# Altium schematic symbol library IC_Digital.SchLib: 15 symbols
Pins are listed as number, name and electrical type; pins without a type are passive.

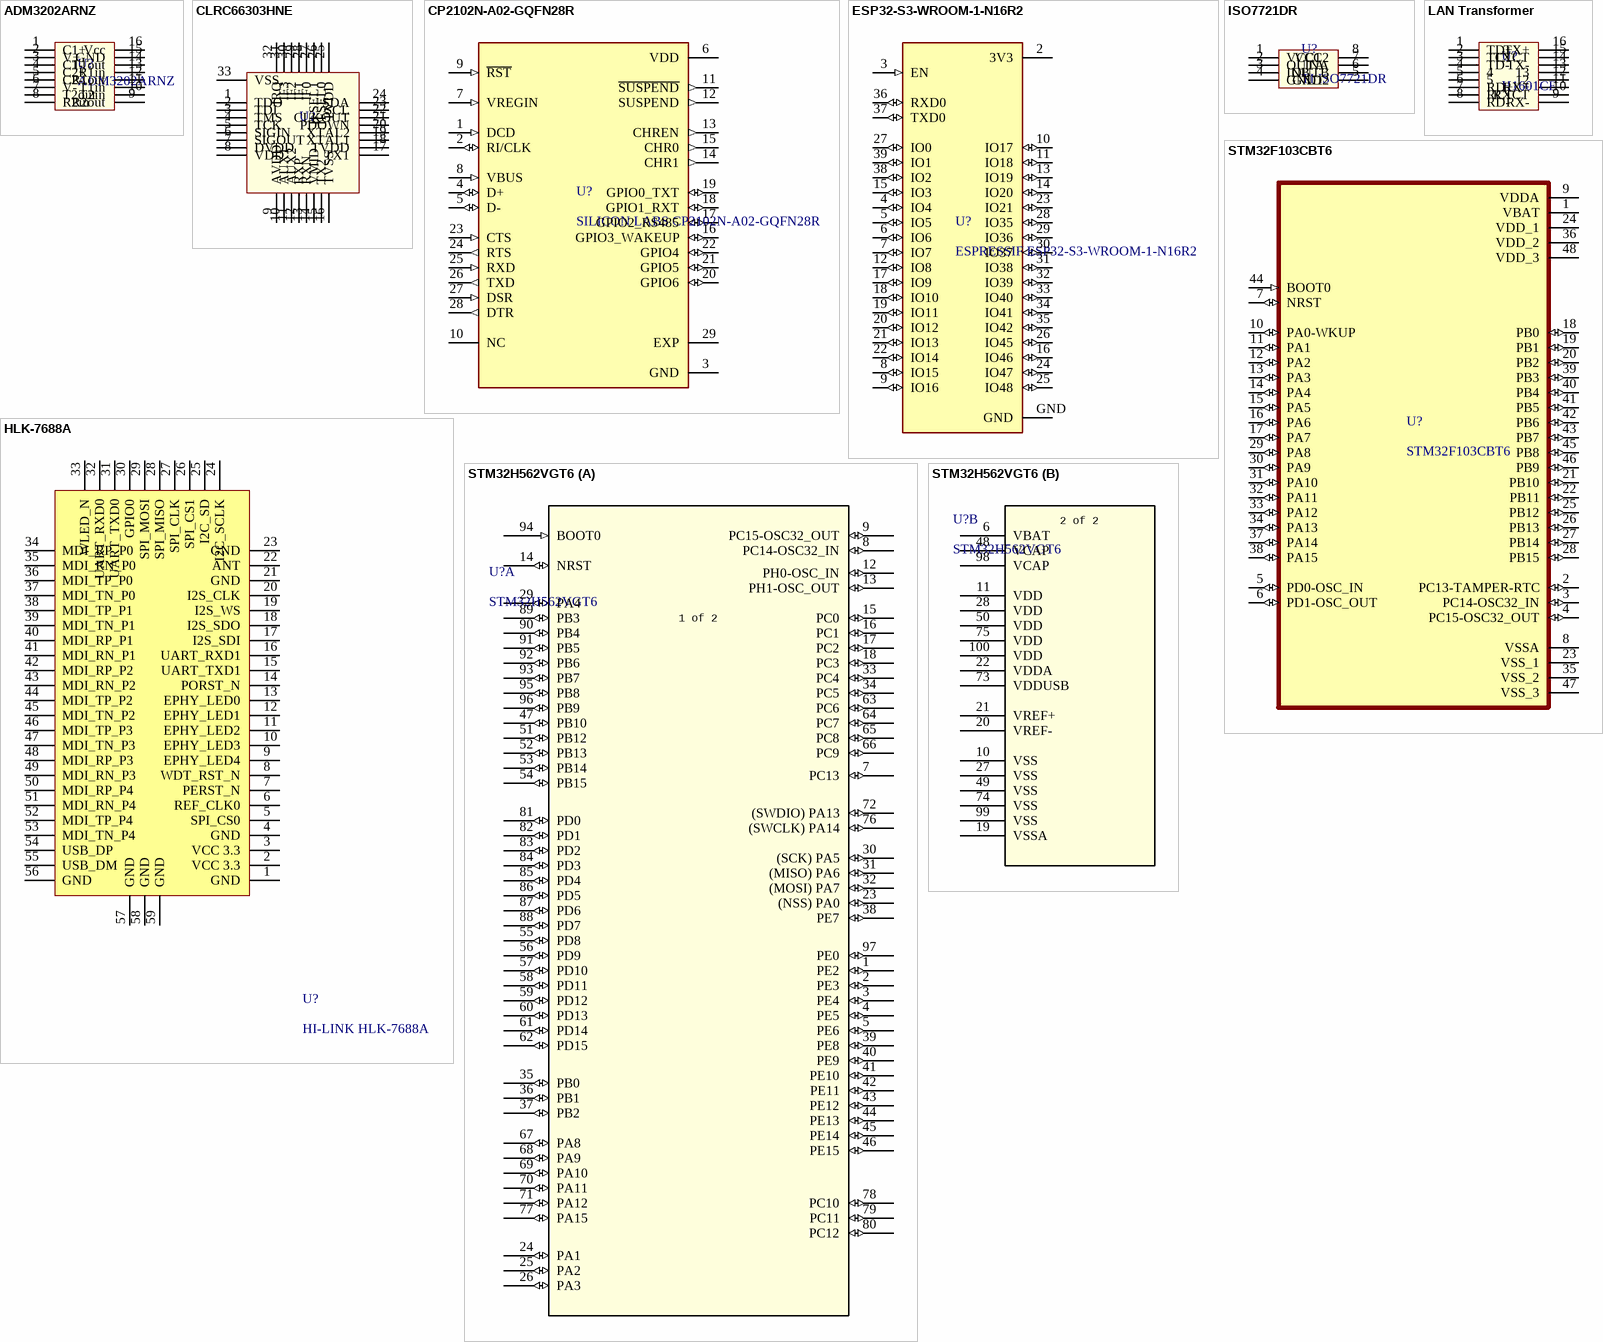
[diagram p0: symbols ADM3202ARNZ to STM32H562VGT6]

## ADM3202ARNZ
designator U?
note: Original; val: ADM3202ARNZ; sample link: https://www.lcsc.com/product-detail/RS232-ICs_Analog-Devices-ADM3202ARNZ-REEL_C496498.html; unit price: $ 1.658
footprint 16SOIC_N (SOIC, 16-Leads, Body 9,90x3,90mm, Pitch 1,27mm, IPC Medium Density)
pins: 1 C1+, 2 V+, 3 C1-, 4 C2+, 5 C2-, 6 V-, 7 T2out, 8 R2in, 9 R2out, 10 T2in, 11 T1in, 12 R1out, 13 R1in, 14 T1out, 15 GND, 16 Vcc

## CLRC66303HNE
designator U?, comment NXP CLRC66303HNE  (value not drawn)
ISO 14443A,ISO 14443B,MIFARE I2C,SPI,UART HVQFN-32-EP(5x5) RFID, RF Access, Monitoring ICs RoHS; sample link: https://www.lcsc.com/product-detail/C468447.html?s_z=n_CLRC663; val: NXP CLRC66303HNE; unit price: $ 3.4146
footprint QFN50P500X500X100_HS-33N (QFN, 32-Leads, Body 5,00x5,00mm, Pitch 0,50mm, Thermal Pad 3,10x3,10mm, IPC Medium Density)
pins: 1 TDO "O", 2 TDI "I", 3 TMS "I", 4 TCK "I", 5 SIGIN "I", 6 SIGOUT "O", 7 DVDD "PWR", 8 VDD "PWR", 9 AVDD "PWR", 10 AUX1 "O", 11 AUX2 "O", 12 RXP "I", 13 RXN "I", 14 VMID "PWR", 15 TX2 "O", 16 TVSS "PWR", 17 TX1 "O", 18 TVDD "PWR", 19 XTAL1 "I", 20 XTAL2 "O", 21 PDOWN "I", 22 CLKOUT "O", 23 SCL "O", 24 SDA "I/O", 25 PVDD "PWR", 26 IFSEL0 "I", 27 IFSEL1 "I", 28 IF0 "I/O", 29 IF1 "I/O", 30 IF2 "I/O", 31 IF3 "I/O", 32 IRQ "O", 33 VSS "PWR"

## CP2102N-A02-GQFN28R
designator U?, comment SILICON LABS CP2102N-A02-GQFN28R
USB to UART USB 2.0 QFN-28-EP(5x5) Interface Controllers RoHS; val: SILICON LABS CP2102N-A02-GQFN28R; note: *; sample link: https://www.lcsc.com/product-detail/C964632.html?s_z=n_CP2102N-A02-GQFN28; unit price: $ 1.6479
footprint IC_CP2102N-A02-GQFN28R
pins: 1 DCD (in), 2 RI/CLK (io), 3 GND (power), 4 D+ (io), 5 D- (io), 6 VDD (power), 7 VREGIN (in), 8 VBUS (in), 9 ~{RST} (in), 10 NC, 11 ~{SUSPEND} (out), 12 SUSPEND (out), 13 CHREN (out), 14 CHR1 (out), 15 CHR0 (out), 16 GPIO3_WAKEUP (io), 17 GPIO2_RS485 (io), 18 GPIO1_RXT (io), 19 GPIO0_TXT (io), 20 GPIO6 (io), 21 GPIO5 (io), 22 GPIO4 (io), 23 CTS (in), 24 RTS (out), 25 RXD (in), 26 TXD (out), 27 DSR (in), 28 DTR (out), 29 EXP (power)

## ESP32-S3-WROOM-1-N16R2
designator U?, comment ESPRESSIF ESP32-S3-WROOM-1-N16R2
2.4GHz ESP32-S3 On-board PCB Antenna -103.5dBm SMD,25.5x18mm RF Transceiver Modules and Modems RoHS; val: ESPRESSIF ESP32-S3-WROOM-1-N16R2; note: *; sample link: https://www.lcsc.com/product-detail/C2913205.html?s_z=n_esp32-s3; unit price: $ 5.2278
footprint XCVR_ESP32-S3-WROOM-1-N16R2
pins: 2 3V3 (power), 3 EN (in), 4 IO4 (io), 5 IO5 (io), 6 IO6 (io), 7 IO7 (io), 8 IO15 (io), 9 IO16 (io), 10 IO17 (io), 11 IO18 (io), 12 IO8 (io), 13 IO19 (io), 14 IO20 (io), 15 IO3 (io), 16 IO46 (io), 17 IO9 (io), 18 IO10 (io), 19 IO11 (io), 20 IO12 (io), 21 IO13 (io), 22 IO14 (io), 23 IO21 (io), 24 IO47 (io), 25 IO48 (io), 26 IO45 (io), 27 IO0 (io), 28 IO35 (io), 29 IO36 (io), 30 IO37 (io), 31 IO38 (io), 32 IO39 (io), 33 IO40 (io), 34 IO41 (io), 35 IO42 (io), 36 RXD0 (io), 37 TXD0 (io), 38 IO2 (io), 39 IO1 (io), GND (power)

## HLK-7688A
designator U?, comment HI-LINK HLK-7688A
MT7688AN Chip -89.5dBm SMD,32.8x18mm RF Transceiver Modules and Modems RoHS; sample link: https://item.taobao.com/item.htm?abbucket=9&id=539321243420&ns=1&spm=a230r.1.14.14.2b842f1aTirrn8; val: HI-LINK HLK-7688A; note: *; unit price: $ 9.37
footprint HLK-7688A
pins: 1 GND, 2 VCC 3.3, 3 VCC 3.3, 4 GND, 5 SPI_CS0, 6 REF_CLK0, 7 PERST_N, 8 WDT_RST_N, 9 EPHY_LED4, 10 EPHY_LED3, 11 EPHY_LED2, 12 EPHY_LED1, 13 EPHY_LED0, 14 PORST_N, 15 UART_TXD1, 16 UART_RXD1, 17 I2S_SDI, 18 I2S_SDO, 19 I2S_WS, 20 I2S_CLK, 21 GND, 22 ANT, 23 GND, 24 I2C_SCLK, 25 I2C_SD, 26 SPI_CS1, 27 SPI_CLK, 28 SPI_MISO, 29 SPI_MOSI, 30 GPIO0, 31 UART_TXD0, 32 UART_RXD0, 33 WLED_N, 34 MDI_RP_P0, 35 MDI_RN_P0, 36 MDI_TP_P0, 37 MDI_TN_P0, 38 MDI_TP_P1, 39 MDI_TN_P1, 40 MDI_RP_P1, 41 MDI_RN_P1, 42 MDI_RP_P2, 43 MDI_RN_P2, 44 MDI_TP_P2, 45 MDI_TN_P2, 46 MDI_TP_P3, 47 MDI_TN_P3, 48 MDI_RP_P3, 49 MDI_RN_P3, 50 MDI_RP_P4, 51 MDI_RN_P4, 52 MDI_TP_P4, 53 MDI_TN_P4, 54 USB_DP, 55 USB_DM, 56 GND, 57 GND, 58 GND, 59 GND

## ISO7721DR
designator U?, comment TI ISO7721DR
100kV/us SOIC-8 Digital Isolators RoHS; val: TI ISO7721DR; note: *; sample link: https://www.lcsc.com/product-detail/C366164.html; unit price: $ 0.5921
footprint 8SOIC_N (SOIC, 8-Leads, Body 4,90x3,90mm, Pitch 1,27mm, IPC Medium Density)
pins: 1 VCC1, 2 OUTA, 3 INB, 4 GND1, 5 GND2, 6 OUTB, 7 INA, 8 VCC2

## LAN Transformer
designator U?, comment H1601CE
350uH 10/100 Base-T LAN Transformer 1CT:1CT Surface Mount-16P,12.7x7.1mm; val: H1601CE; note: *; sample link: https://www.lcsc.com/product-detail/C2904701.html; unit price: $ 0.5563
footprint H1601CE (SOIC, 16-Leads, Body 12.70x7.11mm, Pitch 1.27mm, IPC Medium Density)
pins: 1 TD+, 2 TCT, 3 TD-, 4, 5, 6 RD+, 7 RCT, 8 RD-, 9 RX-, 10 RXCT, 11 RX+, 12, 13, 14 TX-, 15 TXCT, 16 TX+

## STM32F103CBT6
designator U?
ARMÂ® CortexÂ®-M3 STM32F1 Microcontroller IC 32-Bit Single-Core 72MHz 128KB (128K x 8) FLASH; val: STM32F103CBT6; note: *; sample link: https://www.lcsc.com/product-detail/C8304.html?s_z=n_q_%2509%2520STM32F103CBT6&spm=wm.fly.bg.0.xh&lcsc_vid=FFlcBAcARVBYX1YFEgNeUVYCQAQMV1RWTgNcX1VSElIxVlNRTlhbUlJeRlBdXzsOAxUeFF5JWBYZEEoKFBINSQcJGk4%3D; unit price: $ 2.1159
footprint QFP50P900X900X160-48N
pins: 1 VBAT (power), 2 PC13-TAMPER-RTC (io), 3 PC14-OSC32_IN (io), 4 PC15-OSC32_OUT (io), 5 PD0-OSC_IN (io), 6 PD1-OSC_OUT (io), 7 NRST (io), 8 VSSA (power), 9 VDDA (power), 10 PA0-WKUP (io), 11 PA1 (io), 12 PA2 (io), 13 PA3 (io), 14 PA4 (io), 15 PA5 (io), 16 PA6 (io), 17 PA7 (io), 18 PB0 (io), 19 PB1 (io), 20 PB2 (io), 21 PB10 (io), 22 PB11 (io), 23 VSS_1 (power), 24 VDD_1 (power), 25 PB12 (io), 26 PB13 (io), 27 PB14 (io), 28 PB15 (io), 29 PA8 (io), 30 PA9 (io), 31 PA10 (io), 32 PA11 (io), 33 PA12 (io), 34 PA13 (io), 35 VSS_2 (power), 36 VDD_2 (power), 37 PA14 (io), 38 PA15 (io), 39 PB3 (io), 40 PB4 (io), 41 PB5 (io), 42 PB6 (io), 43 PB7 (io), 44 BOOT0 (in), 45 PB8 (io), 46 PB9 (io), 47 VSS_3 (power), 48 VDD_3 (power)

## STM32H562VGT6
designator U?
High-performance, Arm Cortex-M33 with TrustZone, MCU with 1-MByte Flash, 640-Kbyte RAM, 250 MHz CPU; note: Original; val: STM32H562VGT6; sample link: https://www.lcsc.com/product-detail/C22452133.html?s_z=n_STM32H562; unit price: $ 5.6771
footprint LQFP-100_STM
part A pins: 1 PE2 (io), 2 PE3 (io), 3 PE4 (io), 4 PE5 (io), 5 PE6 (io), 7 PC13 (io), 8 PC14-OSC32_IN (io), 9 PC15-OSC32_OUT (io), 12 PH0-OSC_IN (io), 13 PH1-OSC_OUT (io), 14 NRST (io), 15 PC0 (io), 16 PC1 (io), 17 PC2 (io), 18 PC3 (io), 23 (NSS) PA0 (io), 24 PA1 (io), 25 PA2 (io), 26 PA3 (io), 29 PA4 (io), 30 (SCK) PA5 (io), 31 (MISO) PA6 (io), 32 (MOSI) PA7 (io), 33 PC4 (io), 34 PC5 (io), 35 PB0 (io), 36 PB1 (io), 37 PB2 (io), 38 PE7 (io), 39 PE8 (io), 40 PE9 (io), 41 PE10 (io), 42 PE11 (io), 43 PE12 (io), 44 PE13 (io), 45 PE14 (io), 46 PE15 (io), 47 PB10 (io), 51 PB12 (io), 52 PB13 (io), 53 PB14 (io), 54 PB15 (io), 55 PD8 (io), 56 PD9 (io), 57 PD10 (io), 58 PD11 (io), 59 PD12 (io), 60 PD13 (io), 61 PD14 (io), 62 PD15 (io), 63 PC6 (io), 64 PC7 (io), 65 PC8 (io), 66 PC9 (io), 67 PA8 (io), 68 PA9 (io), 69 PA10 (io), 70 PA11 (io), 71 PA12 (io), 72 (SWDIO) PA13 (io), 76 (SWCLK) PA14 (io), 77 PA15 (io), 78 PC10 (io), 79 PC11 (io), 80 PC12 (io), 81 PD0 (io), 82 PD1 (io), 83 PD2 (io), 84 PD3 (io), 85 PD4 (io), 86 PD5 (io), 87 PD6 (io), 88 PD7 (io), 89 PB3 (io), 90 PB4 (io), 91 PB5 (io), 92 PB6 (io), 93 PB7 (io), 94 BOOT0 (in), 95 PB8 (io), 96 PB9 (io), 97 PE0 (io)
part B pins: 6 VBAT (power), 10 VSS (power), 11 VDD (power), 19 VSSA (power), 20 VREF- (power), 21 VREF+ (power), 22 VDDA (power), 27 VSS (power), 28 VDD (power), 48 VCAP (power), 49 VSS (power), 50 VDD (power), 73 VDDUSB (power), 74 VSS (power), 75 VDD (power), 98 VCAP (power), 99 VSS (power), 100 VDD (power)
part A text: 1 of 2
part B text: 2 of 2

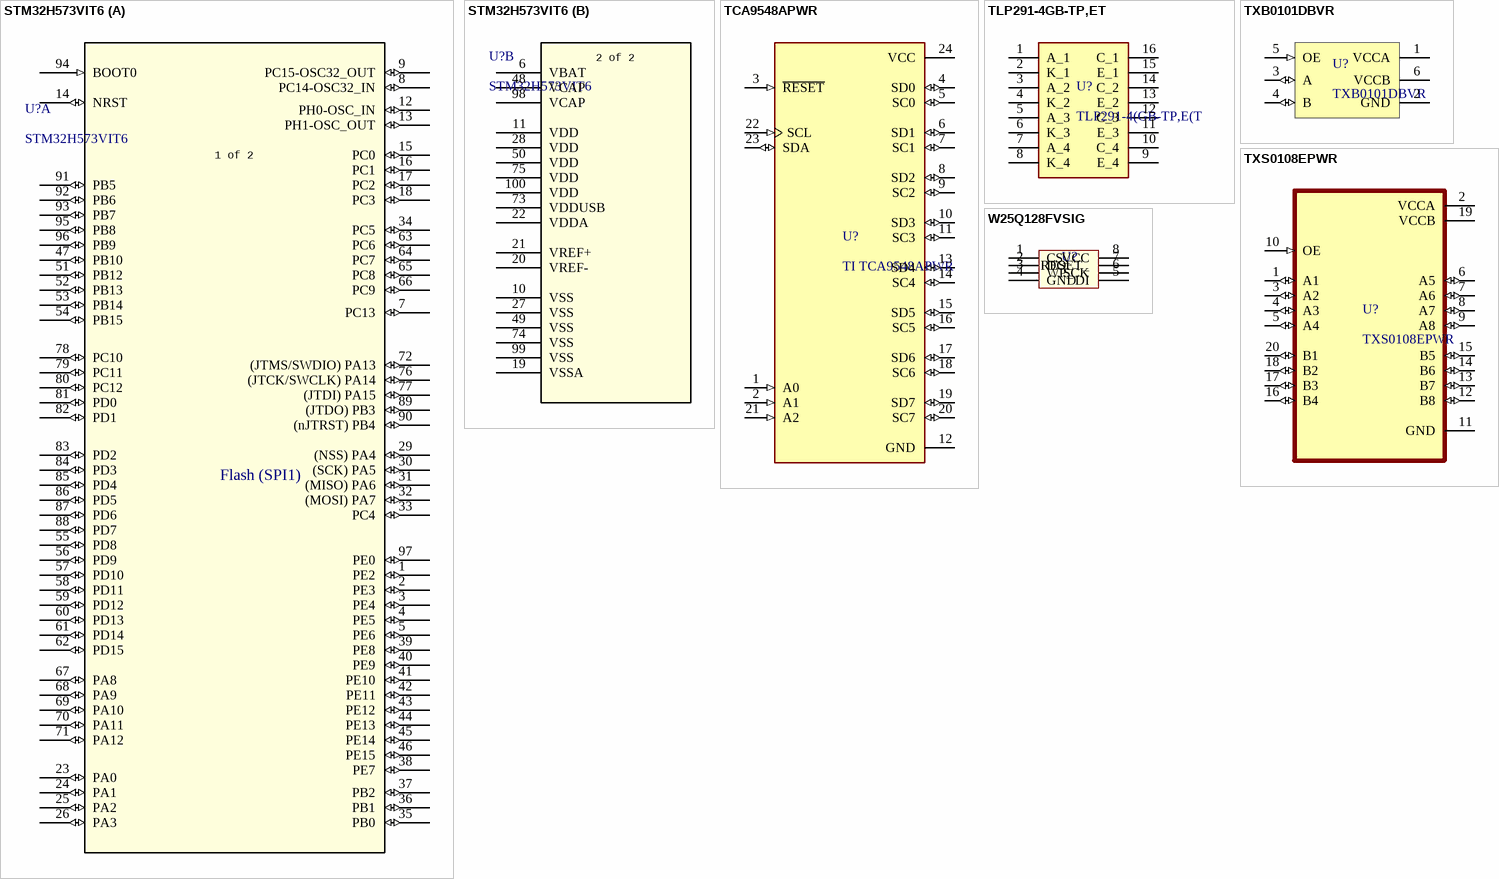
[diagram p1: symbols STM32H573VIT6 to W25Q128FVSIG]

## STM32H573VIT6
designator U?
High-performance, Arm Cortex-M33 with TrustZone, MCU with 1-MByte Flash, 640-Kbyte RAM, 250 MHz CPU; note: Original; val: STM32H573VIT6; sample link: https://www.lcsc.com/product-detail/C7545121.html?s_z=n_stm32h573; unit price: $ 10.3829
footprint LQFP-100_STM
part A pins: 1 PE2 (io), 2 PE3 (io), 3 PE4 (io), 4 PE5 (io), 5 PE6 (io), 7 PC13 (io), 8 PC14-OSC32_IN (io), 9 PC15-OSC32_OUT (io), 12 PH0-OSC_IN (io), 13 PH1-OSC_OUT (io), 14 NRST (io), 15 PC0 (io), 16 PC1 (io), 17 PC2 (io), 18 PC3 (io), 23 PA0 (io), 24 PA1 (io), 25 PA2 (io), 26 PA3 (io), 29 (NSS) PA4 (io), 30 (SCK) PA5 (io), 31 (MISO) PA6 (io), 32 (MOSI) PA7 (io), 33 PC4 (io), 34 PC5 (io), 35 PB0 (io), 36 PB1 (io), 37 PB2 (io), 38 PE7 (io), 39 PE8 (io), 40 PE9 (io), 41 PE10 (io), 42 PE11 (io), 43 PE12 (io), 44 PE13 (io), 45 PE14 (io), 46 PE15 (io), 47 PB10 (io), 51 PB12 (io), 52 PB13 (io), 53 PB14 (io), 54 PB15 (io), 55 PD8 (io), 56 PD9 (io), 57 PD10 (io), 58 PD11 (io), 59 PD12 (io), 60 PD13 (io), 61 PD14 (io), 62 PD15 (io), 63 PC6 (io), 64 PC7 (io), 65 PC8 (io), 66 PC9 (io), 67 PA8 (io), 68 PA9 (io), 69 PA10 (io), 70 PA11 (io), 71 PA12 (io), 72 (JTMS/SWDIO) PA13 (io), 76 (JTCK/SWCLK) PA14 (io), 77 (JTDI) PA15 (io), 78 PC10 (io), 79 PC11 (io), 80 PC12 (io), 81 PD0 (io), 82 PD1 (io), 83 PD2 (io), 84 PD3 (io), 85 PD4 (io), 86 PD5 (io), 87 PD6 (io), 88 PD7 (io), 89 (JTDO) PB3 (io), 90 (nJTRST) PB4 (io), 91 PB5 (io), 92 PB6 (io), 93 PB7 (io), 94 BOOT0 (in), 95 PB8 (io), 96 PB9 (io), 97 PE0 (io)
part B pins: 6 VBAT (power), 10 VSS (power), 11 VDD (power), 19 VSSA (power), 20 VREF- (power), 21 VREF+ (power), 22 VDDA (power), 27 VSS (power), 28 VDD (power), 48 VCAP (power), 49 VSS (power), 50 VDD (power), 73 VDDUSB (power), 74 VSS (power), 75 VDD (power), 98 VCAP (power), 99 VSS (power), 100 VDD (power)
part A text: 1 of 2; Flash (SPI1)
part B text: 2 of 2

## TCA9548APWR
designator U?, comment TI TCA9548APWR
1.65V~5.5V 400Kbps TSSOP-24 Signal Switches, Multiplexers, Decoders RoHS; val: TI TCA9548APWR; sample link: https://www.lcsc.com/product-detail/C130026.html?s_z=n_TCA9548A; unit price: $ 0.6432
footprint SOP65P640X120-24N
pins: 1 A0 (in), 2 A1 (in), 3 ~{RESET} (in), 4 SD0 (io), 5 SC0 (io), 6 SD1 (io), 7 SC1 (io), 8 SD2 (io), 9 SC2 (io), 10 SD3 (io), 11 SC3 (io), 12 GND (power), 13 SD4 (io), 14 SC4 (io), 15 SD5 (io), 16 SC5 (io), 17 SD6 (io), 18 SC6 (io), 19 SD7 (io), 20 SC7 (io), 21 A2 (in), 22 SCL (in), 23 SDA (io), 24 VCC (power)

## TLP291-4GB-TP,ET
designator U?, comment TLP291-4(GB-TP,E(T
4-Channel Optocoupler; note: Original; val: TLP291-4(GB-TP,E(T; sample link: https://www.lcsc.com/product-detail/C60900.html; unit price: $ 0.7297
footprint SO16_TOS
pins: 1 A_1, 2 K_1, 3 A_2, 4 K_2, 5 A_3, 6 K_3, 7 A_4, 8 K_4, 9 E_4, 10 C_4, 11 E_3, 12 C_3, 13 E_2, 14 C_2, 15 E_1, 16 C_1

## TXB0101DBVR
designator U?
1-Bit Bidirectional Voltage-Level Shifter With Auto Direction Sensing and +/-15-kV ESD Protect; note: Original; val: TXB0101DBVR; sample link: https://www.lcsc.com/product-detail/C2652944.html?s_z=n_TXB0101; unit price: $ 0.4233
footprint SOT95P280X145-6N
pins: 1 VCCA (power), 2 GND (power), 3 A (io), 4 B (io), 5 OE (in), 6 VCCB (power)

## TXS0108EPWR
designator U?
8-bit bidirectional voltage-level shifter for open-drain and push-pull application; val: TXS0108EPWR; note: *; sample link: https://www.lcsc.com/product-detail/C17206.html?s_z=s_p_TXS0108EPWR&spm=wm.fly.bg.0.xh&lcsc_vid=FFlcBAcARVBYX1YFEgNeUVYCQAQMV1RWTgNcX1VSElIxVlNRTlBWUVJQTldcVDsOAxUeFF5JWBYZEEoKFBINSQcJGk4dAgUUFAk%3D; unit price: $ 0.3519
footprint SOP65P640X120-20N
pins: 1 A1 (io), 2 VCCA (power), 3 A2 (io), 4 A3 (io), 5 A4 (io), 6 A5 (io), 7 A6 (io), 8 A7 (io), 9 A8 (io), 10 OE (in), 11 GND (power), 12 B8 (io), 13 B7 (io), 14 B6 (io), 15 B5 (io), 16 B4 (io), 17 B3 (io), 18 B2 (io), 19 VCCB (power), 20 B1 (io)

## W25Q128FVSIG
designator U?  (value not drawn)
FLASH - NOR Memory IC 128Mbit SPI - Quad I/O, QPI 104 MHz 8-SOIC from Winbond Electronics.; note: Original; val: W25Q128FVSIG; sample link: https://www.lcsc.com/product-detail/NOR-FLASH_Winbond-Elec-W25Q128JVSIQ_C113767.html; unit price: $ 2.4057
footprint 8SOIC_208 (SOIC, 8-Leads, Body 5,23x5,23mm, Pitch 1,27mm, IPC Medium Density)
pins: 1 CS_, 2 DO, 3 WP_, 4 GND, 5 DI, 6 SCK, 7 RESET_, 8 VCC